# Altium schematic symbol library Conn,Jack,4Cond,3.5mm,Female,Thru.SchLib: 1 symbol
Pins are listed as number, name and electrical type; pins without a type are passive.

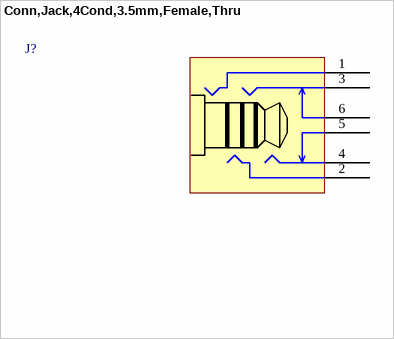
[diagram p0: symbol Conn,Jack,4Cond,3.5mm,Female,Thru]

## Conn,Jack,4Cond,3.5mm,Female,Thru
designator J?
pins: 1, 2, 3, 4, 5 NC, 6 NC